# EAGLE library part 36 (library display-lcd-lxd)
6 Numerical Digit, .35" (8.89) Direct Drive Display Additional Descriptors: none
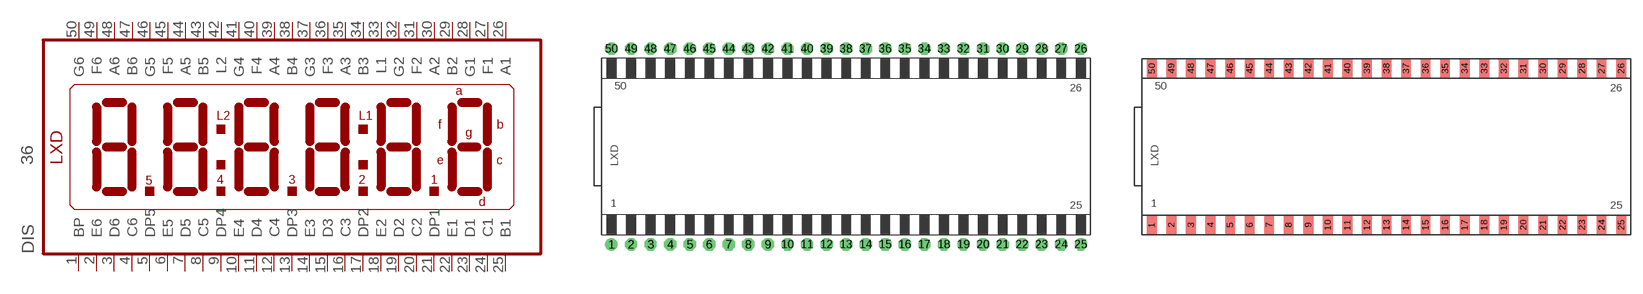
[diagram p0: symbol with the pads of 36-D; footprints 36-D, 36-E]

Designator prefix DIS

## 36DIP  [36-D]
1  BP  pas
2  E6  pas
3  D6  pas
4  C6  pas
5  DP5  pas
6  E5  pas
7  D5  pas
8  C5  pas
9  DP4  pas
10  E4  pas
11  D4  pas
12  C4  pas
13  DP3  pas
14  E3  pas
15  D3  pas
16  C3  pas
17  DP2  pas
18  E2  pas
19  D2  pas
20  C2  pas
21  DP1  pas
22  E1  pas
23  D1  pas
24  C1  pas
25  B1  pas
26  A1  pas
27  F1  pas
28  G1  pas
29  B2  pas
30  A2  pas
31  F2  pas
32  G2  pas
33  L1  pas
34  B3  pas
35  A3  pas
36  F3  pas
37  G3  pas
38  B4  pas
39  A4  pas
40  F4  pas
41  G4  pas
42  L2  pas
43  B5  pas
44  A5  pas
45  F5  pas
46  G5  pas
47  B6  pas
48  A6  pas
49  F6  pas
50  G6  pas

## 36SMD  [36-E]
Pads as for 36-D

## Footprint 36-D (pad centres in mm)
Glass Size: 2.50" x 0.90" &nbsp &nbsp &nbsp &nbsp &nbsp &nbsp &nbsp &nbsp &nbsp (63.50 x 22.86)
drill 0.813 pad 1.6: 1 -30.48,-12.7
drill 0.813 pad 1.6 octagon: 2 -27.94,-12.7; 3 -25.4,-12.7; 4 -22.86,-12.7; 5 -20.32,-12.7; 6 -17.78,-12.7; 7 -15.24,-12.7; 8 -12.7,-12.7; 9 -10.16,-12.7; 10 -7.62,-12.7; 11 -5.08,-12.7; 12 -2.54,-12.7; 13 0,-12.7; 14 2.54,-12.7; 15 5.08,-12.7; 16 7.62,-12.7; 17 10.16,-12.7; 18 12.7,-12.7; 19 15.24,-12.7; 20 17.78,-12.7; 21 20.32,-12.7; 22 22.86,-12.7; 23 25.4,-12.7; 24 27.94,-12.7; 25 30.48,-12.7; 26 30.48,12.7; 27 27.94,12.7; 28 25.4,12.7; 29 22.86,12.7; 30 20.32,12.7; 31 17.78,12.7; 32 15.24,12.7; 33 12.7,12.7; 34 10.16,12.7; 35 7.62,12.7; 36 5.08,12.7; 37 2.54,12.7; 38 0,12.7; 39 -2.54,12.7; 40 -5.08,12.7; 41 -7.62,12.7; 42 -10.16,12.7; 43 -12.7,12.7; 44 -15.24,12.7; 45 -17.78,12.7; 46 -20.32,12.7; 47 -22.86,12.7; 48 -25.4,12.7; 49 -27.94,12.7; 50 -30.48,12.7

## Footprint 36-E (pad centres in mm)
Glass Size: 2.50" x 0.90" &nbsp &nbsp &nbsp &nbsp &nbsp &nbsp &nbsp &nbsp &nbsp (63.50 x 22.86)
smd 1.27 x 2.54: 1 -30.48,-10.16; 2 -27.94,-10.16; 3 -25.4,-10.16; 4 -22.86,-10.16; 5 -20.32,-10.16; 6 -17.78,-10.16; 7 -15.24,-10.16; 8 -12.7,-10.16; 9 -10.16,-10.16; 10 -7.62,-10.16; 11 -5.08,-10.16; 12 -2.54,-10.16; 13 0,-10.16; 14 2.54,-10.16; 15 5.08,-10.16; 16 7.62,-10.16; 17 10.16,-10.16; 18 12.7,-10.16; 19 15.24,-10.16; 20 17.78,-10.16; 21 20.32,-10.16; 22 22.86,-10.16; 23 25.4,-10.16; 24 27.94,-10.16; 25 30.48,-10.16; 26 30.48,10.16; 27 27.94,10.16; 28 25.4,10.16; 29 22.86,10.16; 30 20.32,10.16; 31 17.78,10.16; 32 15.24,10.16; 33 12.7,10.16; 34 10.16,10.16; 35 7.62,10.16; 36 5.08,10.16; 37 2.54,10.16; 38 0,10.16; 39 -2.54,10.16; 40 -5.08,10.16; 41 -7.62,10.16; 42 -10.16,10.16; 43 -12.7,10.16; 44 -15.24,10.16; 45 -17.78,10.16; 46 -20.32,10.16; 47 -22.86,10.16; 48 -25.4,10.16; 49 -27.94,10.16; 50 -30.48,10.16